# EAGLE library part MCP42X1 (library FiveVolt)
Dual Potentiometers
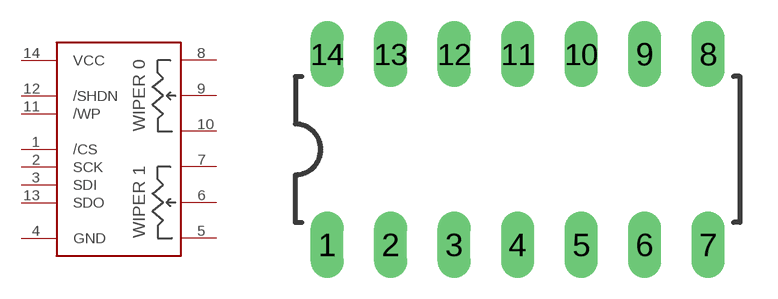
[diagram p2: symbol with the pads of DIL14; footprint DIL14]

Designator prefix U

## MCP42X1  [DIL14]
1  /CS
2  SCK
3  SDI
4  GND
5  P1B
6  P1W
7  P1A
8  P0A
9  P0W
10  P0B
11  /WP
12  /SHDN
13  SDO
14  VCC

## Footprint DIL14 (pad centres in mm)
drill 0.813 long: 1 -7.62,-3.81; 2 -5.08,-3.81; 3 -2.54,-3.81; 4 0,-3.81; 5 2.54,-3.81; 6 5.08,-3.81; 7 7.62,-3.81; 8 7.62,3.81; 9 5.08,3.81; 10 2.54,3.81; 11 0,3.81; 12 -2.54,3.81; 13 -5.08,3.81; 14 -7.62,3.81